# Altium schematic symbol library TCA9617BDGKR.SchLib: 1 symbol
Pins are listed as number, name and electrical type; pins without a type are passive.

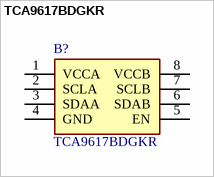
[diagram p0: symbol TCA9617BDGKR]

## TCA9617BDGKR
designator B?
Level-Translating I2C Bus Repeater; Manufacturer_Name: Texas Instruments; Geometry.Height: 1.1mm; Mouser Part Number: 595-TCA9617BDGKR; Mouser Price/Stock: https://www.mouser.co.uk/ProductDetail/Texas-Instruments/TCA9617BDGKR?qs=beZBGHSk9c0ld%2FENCXLuZQ%3D%3D; Manufacturer_Part_Number: TCA9617BDGKR; Datasheet Link: http://www.ti.com/lit/gpn/tca9617b
footprint SOP65P490X110-8N
pins: 1 VCCA, 2 SCLA, 3 SDAA, 4 GND, 5 EN, 6 SDAB, 7 SCLB, 8 VCCB